# Altium footprint library NXP Semiconductors Sensors.PcbLib: 38 footprints (part 2 of 3)
Each footprint in its own frame and in the unit in brackets; x right, y up, seen from the top. Pads: shape width x height; smd on the part's side, far side on the other; paste and mask are expansions set on the pad; w line width, h text height; cw(c..) or ccw(c..) is an arc to the next point about the centre after c.
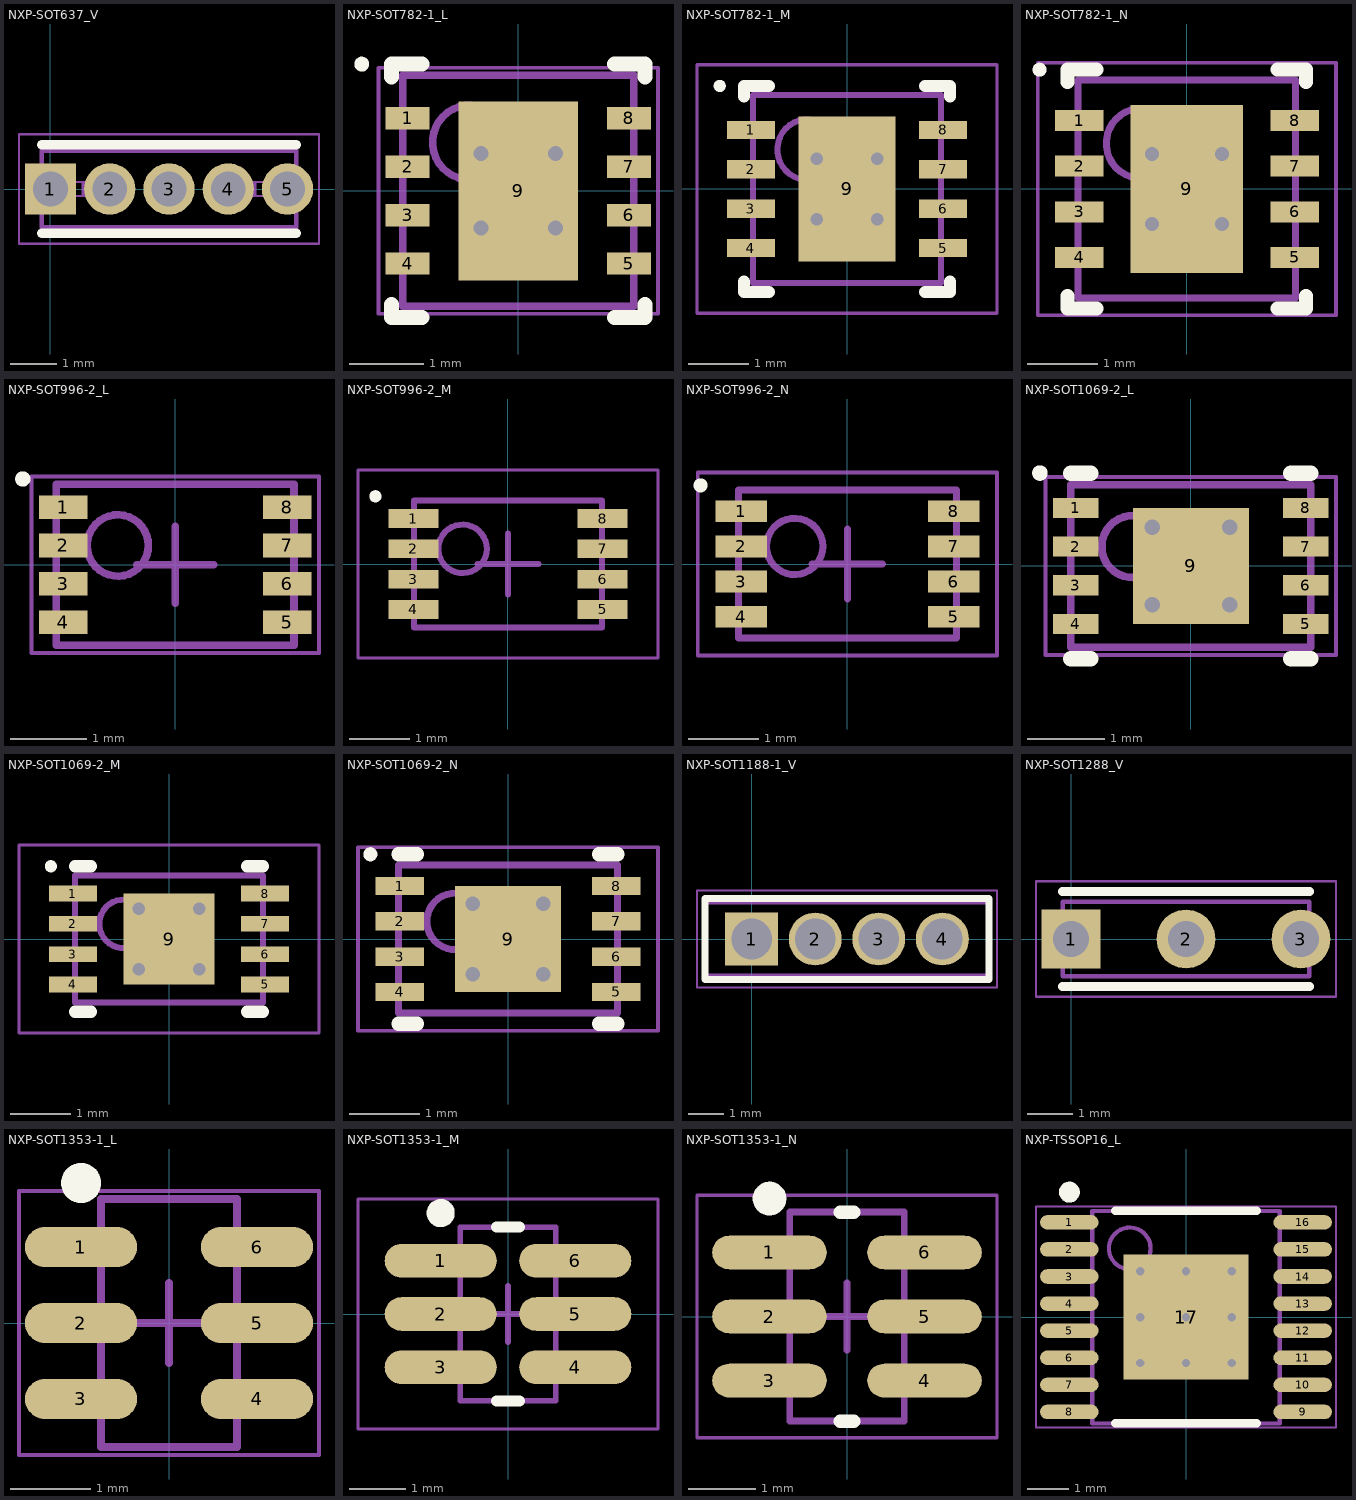
[diagram p1: the footprints below, top view; thin cyan lines are the x and y axes]

## NXP-SOT637_V [mm] "SOT, 5-Leads, Body 5.45x1.55mm, Pitch 1.27 mm"
height 16.65
pads (5):
  rect 1.1x1.1 hole 0.75: 1(0,0)
  round 1.1 hole 0.75: 2(1.27,0) 3(2.54,0) 4(3.81,0) 5(5.08,0)
Top Overlay:
  lines w0.2: -0.185,-0.95 5.265,-0.95 ; -0.185,0.95 5.265,0.95
Mechanical 13:
  lines w0.05: 0.34,-0.15 0.74,-0.15 0.74,0.15 0.34,0.15 0.34,-0.15 ; 0.39,-0.15 0.69,-0.15 0.69,0.15 0.39,0.15 0.39,-0.15 ; 1.34,-0.15 1.34,0.15 1.74,0.15 1.74,-0.15 1.34,-0.15 ; 1.39,-0.15 1.39,0.15 1.69,0.15 1.69,-0.15 1.39,-0.15 ; 2.34,-0.15 2.34,0.15 2.74,0.15 2.74,-0.15 2.34,-0.15 ; 2.39,-0.15 2.39,0.15 2.69,0.15 2.69,-0.15 2.39,-0.15 ; 3.34,-0.15 3.74,-0.15 3.74,0.15 3.34,0.15 3.34,-0.15 ; 3.39,-0.15 3.69,-0.15 3.69,0.15 3.39,0.15 3.39,-0.15 ; 4.34,-0.15 4.74,-0.15 4.74,0.15 4.34,0.15 4.34,-0.15 ; 4.39,-0.15 4.69,-0.15 4.69,0.15 4.39,0.15 4.39,-0.15
  lines w0.1: -0.185,-0.825 -0.185,0.825 5.265,0.825 5.265,-0.825 -0.185,-0.825
Mechanical 15:
  lines w0.05: -0.675,-1.175 5.755,-1.175 5.755,1.175 -0.675,1.175 -0.675,-1.175
3D body: height 0.98, standoff -4.78, extent 2.315,-0.15 3.165,0.15
3D body: height 9.05, standoff 0.95, extent -0.185,-0.825 5.265,0.825
3D body: height 16.65, standoff 12.05, extent -0.185,-0.825 5.265,0.825
3D body: height 12.05, standoff 9.05, extent 0.39,-0.15 0.69,0.15
3D body: height 11.85, standoff 9.25, extent 0.34,-0.15 0.74,0.15
3D body: height 11.85, standoff 9.25, extent 1.34,-0.15 1.74,0.15
3D body: height 12.05, standoff 9.05, extent 1.39,-0.15 1.69,0.15
3D body: height 11.85, standoff 9.25, extent 2.34,-0.15 2.74,0.15
3D body: height 12.05, standoff 9.05, extent 2.39,-0.15 2.69,0.15
3D body: height 12.05, standoff 9.05, extent 3.39,-0.15 3.69,0.15
3D body: height 11.85, standoff 9.25, extent 3.34,-0.15 3.74,0.15
3D body: height 12.05, standoff 9.05, extent 4.39,-0.15 4.69,0.15
3D body: height 11.85, standoff 9.25, extent 4.34,-0.15 4.74,0.15
3D body: height 0.95, standoff -4.75, extent -0.2,-0.15 0.95,0.15
3D body: height 0.95, standoff -4.75, extent 4.115,-0.15 5.265,0.15
3D body: height 0.98, standoff -4.78, extent 1.04,-0.15 1.69,0.15
3D body: height 0.98, standoff -4.78, extent 3.34,-0.15 3.99,0.15

## NXP-SOT782-1_L [mm] "PSON, 8-Leads, Body 3.1x3.1mm, Pitch 0.65mm, Thermal Pad 2.4x1.6mm, IPC High Density"
height 1
pads (9):
  rect 0.59x0.3 smd mask+0: 1(-1.485,0.975) 2(-1.485,0.325) 3(-1.485,-0.325) 4(-1.485,-0.975) 5(1.485,-0.975) 6(1.485,-0.325) 7(1.485,0.325) 8(1.485,0.975)
  rect 1.6x2.4 smd mask+0: 9(0,0)
via 0.5,-0.5 diameter 0.5 hole 0.2
via -0.5,-0.5 diameter 0.5 hole 0.2
via 0.5,0.5 diameter 0.5 hole 0.2
via -0.5,0.5 diameter 0.5 hole 0.2
Top Overlay:
  circle w0.1: c-2.1,1.7 r0.05
  lines w0.2: -1.7,-1.525 -1.7,-1.7 -1.29,-1.7 ; -1.7,1.525 -1.7,1.7 -1.29,1.7 ; 1.29,-1.7 1.7,-1.7 1.7,-1.525 ; 1.29,1.7 1.7,1.7 1.7,1.525
Mechanical 13:
  circle w0.1: c-0.65,0.65 r0.5
  lines w0.1: -1.55,-1.55 1.55,-1.55 1.55,1.55 -1.55,1.55 -1.55,-1.55
Mechanical 15:
  lines w0.05: -1.875,-1.65 1.875,-1.65 1.875,1.65 -1.875,1.65 -1.875,-1.65
  lines w0.1: -0.5,0 0.5,0 ; 0,-0.5 0,0.5
3D body: height 1, standoff 0, extent -1.55,-1.55 1.55,1.55

## NXP-SOT782-1_M [mm] "PSON, 8-Leads, Body 3.1x3.1mm, Pitch 0.65mm, Thermal Pad 2.4x1.6mm, IPC Low Density"
height 1
pads (9):
  rect 0.79x0.3 smd mask+0: 1(-1.585,0.975) 2(-1.585,0.325) 3(-1.585,-0.325) 4(-1.585,-0.975) 5(1.585,-0.975) 6(1.585,-0.325) 7(1.585,0.325) 8(1.585,0.975)
  rect 1.6x2.4 smd mask+0: 9(0,0)
via 0.5,-0.5 diameter 0.5 hole 0.2
via -0.5,-0.5 diameter 0.5 hole 0.2
via 0.5,0.5 diameter 0.5 hole 0.2
via -0.5,0.5 diameter 0.5 hole 0.2
Top Overlay:
  circle w0.1: c-2.1,1.7 r0.05
  lines w0.2: -1.7,-1.525 -1.7,-1.7 -1.29,-1.7 ; -1.7,1.525 -1.7,1.7 -1.29,1.7 ; 1.29,-1.7 1.7,-1.7 1.7,-1.525 ; 1.29,1.7 1.7,1.7 1.7,1.525
Mechanical 13:
  circle w0.1: c-0.65,0.65 r0.5
  lines w0.1: -1.55,-1.55 1.55,-1.55 1.55,1.55 -1.55,1.55 -1.55,-1.55
Mechanical 15:
  lines w0.05: -2.475,-2.05 2.475,-2.05 2.475,2.05 -2.475,2.05 -2.475,-2.05
  lines w0.1: -0.5,0 0.5,0 ; 0,-0.5 0,0.5
3D body: height 1, standoff 0, extent -1.55,-1.55 1.55,1.55

## NXP-SOT782-1_N [mm] "PSON, 8-Leads, Body 3.1x3.1mm, Pitch 0.65mm, Thermal Pad 2.4x1.6mm, IPC Medium Density"
height 1
pads (9):
  rect 0.69x0.3 smd mask+0: 1(-1.535,0.975) 2(-1.535,0.325) 3(-1.535,-0.325) 4(-1.535,-0.975) 5(1.535,-0.975) 6(1.535,-0.325) 7(1.535,0.325) 8(1.535,0.975)
  rect 1.6x2.4 smd mask+0: 9(0,0)
via 0.5,-0.5 diameter 0.5 hole 0.2
via -0.5,-0.5 diameter 0.5 hole 0.2
via 0.5,0.5 diameter 0.5 hole 0.2
via -0.5,0.5 diameter 0.5 hole 0.2
Top Overlay:
  circle w0.1: c-2.1,1.7 r0.05
  lines w0.2: -1.7,-1.525 -1.7,-1.7 -1.29,-1.7 ; -1.7,1.525 -1.7,1.7 -1.29,1.7 ; 1.29,-1.7 1.7,-1.7 1.7,-1.525 ; 1.29,1.7 1.7,1.7 1.7,1.525
Mechanical 13:
  circle w0.1: c-0.65,0.65 r0.5
  lines w0.1: -1.55,-1.55 1.55,-1.55 1.55,1.55 -1.55,1.55 -1.55,-1.55
Mechanical 15:
  lines w0.05: -2.125,-1.8 2.125,-1.8 2.125,1.8 -2.125,1.8 -2.125,-1.8
  lines w0.1: -0.5,0 0.5,0 ; 0,-0.5 0,0.5
3D body: height 1, standoff 0, extent -1.55,-1.55 1.55,1.55

## NXP-SOT996-2_L [mm] "PSON, 8-Leads, Body 2.1x3.1mm, Pitch 0.5mm, IPC High Density"
height 0.5
pads (8):
  rect 0.63x0.31 smd mask+0: 1(-1.46,0.75) 2(-1.46,0.25) 3(-1.46,-0.25) 4(-1.46,-0.75) 5(1.46,-0.75) 6(1.46,-0.25) 7(1.46,0.25) 8(1.46,0.75)
Top Overlay:
  circle w0.1: c-1.987,1.117 r0.05
Mechanical 13:
  circle w0.1: c-0.75,0.25 r0.4
  lines w0.1: -1.55,-1.05 1.55,-1.05 1.55,1.05 -1.55,1.05 -1.55,-1.05
Mechanical 15:
  lines w0.05: -1.875,-1.15 1.875,-1.15 1.875,1.15 -1.875,1.15 -1.875,-1.15
  lines w0.1: -0.5,0 0.5,0 ; 0,-0.5 0,0.5
3D body: height 0.5, standoff 0, extent -1.55,-1.05 1.55,1.05

## NXP-SOT996-2_M [mm] "PSON, 8-Leads, Body 2.1x3.1mm, Pitch 0.5mm, IPC Low Density"
height 0.5
pads (8):
  rect 0.83x0.31 smd mask+0: 1(-1.56,0.75) 2(-1.56,0.25) 3(-1.56,-0.25) 4(-1.56,-0.75) 5(1.56,-0.75) 6(1.56,-0.25) 7(1.56,0.25) 8(1.56,0.75)
Top Overlay:
  circle w0.1: c-2.187,1.117 r0.05
Mechanical 13:
  circle w0.1: c-0.75,0.25 r0.4
  lines w0.1: -1.55,-1.05 1.55,-1.05 1.55,1.05 -1.55,1.05 -1.55,-1.05
Mechanical 15:
  lines w0.05: -2.475,-1.55 2.475,-1.55 2.475,1.55 -2.475,1.55 -2.475,-1.55
  lines w0.1: -0.5,0 0.5,0 ; 0,-0.5 0,0.5
3D body: height 0.5, standoff 0, extent -1.55,-1.05 1.55,1.05

## NXP-SOT996-2_N [mm] "PSON, 8-Leads, Body 2.1x3.1mm, Pitch 0.5mm, IPC Medium Density"
height 0.5
pads (8):
  rect 0.73x0.31 smd mask+0: 1(-1.51,0.75) 2(-1.51,0.25) 3(-1.51,-0.25) 4(-1.51,-0.75) 5(1.51,-0.75) 6(1.51,-0.25) 7(1.51,0.25) 8(1.51,0.75)
Top Overlay:
  circle w0.1: c-2.087,1.117 r0.05
Mechanical 13:
  circle w0.1: c-0.75,0.25 r0.4
  lines w0.1: -1.55,-1.05 1.55,-1.05 1.55,1.05 -1.55,1.05 -1.55,-1.05
Mechanical 15:
  lines w0.05: -2.125,-1.3 2.125,-1.3 2.125,1.3 -2.125,1.3 -2.125,-1.3
  lines w0.1: -0.5,0 0.5,0 ; 0,-0.5 0,0.5
3D body: height 0.5, standoff 0, extent -1.55,-1.05 1.55,1.05

## NXP-SOT1069-2_L [mm] "PSON, 8-Leads, Body 2.1x3.1mm, Pitch 0.5mm, Thermal Pad 1.5x1.5mm, IPC High Density"
height 0.8
pads (9):
  rect 0.59x0.26 smd mask+0: 1(-1.485,0.75) 2(-1.485,0.25) 3(-1.485,-0.25) 4(-1.485,-0.75) 5(1.485,-0.75) 6(1.485,-0.25) 7(1.485,0.25) 8(1.485,0.75)
  rect 1.5x1.5 smd mask+0: 9(0,0)
via 0.5,-0.5 diameter 0.5 hole 0.2
via -0.5,-0.5 diameter 0.5 hole 0.2
via 0.5,0.5 diameter 0.5 hole 0.2
via -0.5,0.5 diameter 0.5 hole 0.2
Top Overlay:
  circle w0.1: c-1.95,1.2 r0.05
  lines w0.2: -1.55,-1.2 -1.29,-1.2 ; -1.55,1.2 -1.29,1.2 ; 1.29,-1.2 1.55,-1.2 ; 1.29,1.2 1.55,1.2
Mechanical 13:
  circle w0.1: c-0.75,0.25 r0.4
  lines w0.1: -1.55,-1.05 1.55,-1.05 1.55,1.05 -1.55,1.05 -1.55,-1.05
Mechanical 15:
  lines w0.05: -1.875,-1.15 1.875,-1.15 1.875,1.15 -1.875,1.15 -1.875,-1.15
  lines w0.1: -0.5,0 0.5,0 ; 0,-0.5 0,0.5
3D body: height 0.8, standoff 0, extent -1.55,-1.05 1.55,1.05

## NXP-SOT1069-2_M [mm] "PSON, 8-Leads, Body 2.1x3.1mm, Pitch 0.5mm, Thermal Pad 1.5x1.5mm, IPC Low Density"
height 0.8
pads (9):
  rect 0.79x0.26 smd mask+0: 1(-1.585,0.75) 2(-1.585,0.25) 3(-1.585,-0.25) 4(-1.585,-0.75) 5(1.585,-0.75) 6(1.585,-0.25) 7(1.585,0.25) 8(1.585,0.75)
  rect 1.5x1.5 smd mask+0: 9(0,0)
via 0.5,-0.5 diameter 0.5 hole 0.2
via -0.5,-0.5 diameter 0.5 hole 0.2
via 0.5,0.5 diameter 0.5 hole 0.2
via -0.5,0.5 diameter 0.5 hole 0.2
Top Overlay:
  circle w0.1: c-1.95,1.2 r0.05
  lines w0.2: -1.55,-1.2 -1.29,-1.2 ; -1.55,1.2 -1.29,1.2 ; 1.29,-1.2 1.55,-1.2 ; 1.29,1.2 1.55,1.2
Mechanical 13:
  circle w0.1: c-0.75,0.25 r0.4
  lines w0.1: -1.55,-1.05 1.55,-1.05 1.55,1.05 -1.55,1.05 -1.55,-1.05
Mechanical 15:
  lines w0.05: -2.475,-1.55 2.475,-1.55 2.475,1.55 -2.475,1.55 -2.475,-1.55
  lines w0.1: -0.5,0 0.5,0 ; 0,-0.5 0,0.5
3D body: height 0.8, standoff 0, extent -1.55,-1.05 1.55,1.05

## NXP-SOT1069-2_N [mm] "PSON, 8-Leads, Body 2.1x3.1mm, Pitch 0.5mm, Thermal Pad 1.5x1.5mm, IPC Medium Density"
height 0.8
pads (9):
  rect 0.69x0.26 smd mask+0: 1(-1.535,0.75) 2(-1.535,0.25) 3(-1.535,-0.25) 4(-1.535,-0.75) 5(1.535,-0.75) 6(1.535,-0.25) 7(1.535,0.25) 8(1.535,0.75)
  rect 1.5x1.5 smd mask+0: 9(0,0)
via 0.5,-0.5 diameter 0.5 hole 0.2
via -0.5,-0.5 diameter 0.5 hole 0.2
via 0.5,0.5 diameter 0.5 hole 0.2
via -0.5,0.5 diameter 0.5 hole 0.2
Top Overlay:
  circle w0.1: c-1.95,1.2 r0.05
  lines w0.2: -1.55,-1.2 -1.29,-1.2 ; -1.55,1.2 -1.29,1.2 ; 1.29,-1.2 1.55,-1.2 ; 1.29,1.2 1.55,1.2
Mechanical 13:
  circle w0.1: c-0.75,0.25 r0.4
  lines w0.1: -1.55,-1.05 1.55,-1.05 1.55,1.05 -1.55,1.05 -1.55,-1.05
Mechanical 15:
  lines w0.05: -2.125,-1.3 2.125,-1.3 2.125,1.3 -2.125,1.3 -2.125,-1.3
  lines w0.1: -0.5,0 0.5,0 ; 0,-0.5 0,0.5
3D body: height 0.8, standoff 0, extent -1.55,-1.05 1.55,1.05

## NXP-SOT1188-1_V [mm] "SOT, 4-Leads, Body 8.05x2.05mm, Pitch 1.8mm"
height 13.88
pads (4):
  rect 1.5x1.5 hole 1.15: 1(0,0)
  round 1.5 hole 1.15: 2(1.8,0) 3(3.6,0) 4(5.4,0)
Top Overlay:
  lines w0.2: -1.325,-1.15 -1.325,1.15 6.725,1.15 6.725,-1.15 -1.325,-1.15
Mechanical 13:
  lines w0.1: -1.325,-1.025 -1.325,1.025 6.725,1.025 6.725,-1.025 -1.325,-1.025
Mechanical 15:
  lines w0.05: -1.55,-1.375 -1.55,1.375 6.95,1.375 6.95,-1.375 -1.55,-1.375
3D body: height 13.88, standoff 0, extent -1.325,-1.025 6.725,1.025

## NXP-SOT1288_V [mm] "SOT, 3-Leads, Body 5.45x1.65mm, Pitch 2.54mm"
height 16.65
pads (3):
  rect 1.3x1.3 hole 0.8: 1(0,0)
  round 1.3 hole 0.8: 2(2.54,0) 3(5.08,0)
Top Overlay:
  lines w0.2: -0.185,-1.05 5.265,-1.05 ; -0.185,1.05 5.265,1.05
Mechanical 13:
  lines w0.1: -0.185,-0.825 -0.185,0.825 5.265,0.825 5.265,-0.825 -0.185,-0.825
Mechanical 15:
  lines w0.05: -0.775,-1.275 5.855,-1.275 5.855,1.275 -0.775,1.275 -0.775,-1.275
3D body: height 16.65, standoff 0, extent -0.185,-0.825 5.265,0.825

## NXP-SOT1353-1_L [mm] "SOP, 6-Leads, Body 3.1x1.7mm, Pitch 0.95mm, IPC High Density"
height 1.1
pads (6):
  oval 1.4x0.5 smd: 1(-1.1,0.95) 2(-1.1,0) 3(-1.1,-0.95) 4(1.1,-0.95) 5(1.1,0) 6(1.1,0.95)
Top Overlay:
  circle w0.25: c-1.1,1.75 r0.125
Mechanical 13:
  lines w0.1: -0.85,-1.55 0.85,-1.55 0.85,1.55 -0.85,1.55 -0.85,-1.55
Mechanical 15:
  lines w0.05: -1.875,-1.65 1.875,-1.65 1.875,1.65 -1.875,1.65 -1.875,-1.65
  lines w0.1: -0.5,0 0.5,0 ; 0,-0.5 0,0.5
3D body: height 1.1, standoff 0.01, extent -0.85,-1.55 0.85,1.55

## NXP-SOT1353-1_M [mm] "SOP, 6-Leads, Body 3.1x1.7mm, Pitch 0.95mm, IPC Low Density"
height 1.1
pads (6):
  oval 2x0.6 smd: 1(-1.2,0.95) 2(-1.2,0) 3(-1.2,-0.95) 4(1.2,-0.95) 5(1.2,0) 6(1.2,0.95)
Top Overlay:
  circle w0.25: c-1.2,1.8 r0.125
  lines w0.2: -0.2,-1.55 0.2,-1.55 ; -0.2,1.55 0.2,1.55
Mechanical 13:
  lines w0.1: -0.85,-1.55 -0.85,1.55 0.85,1.55 0.85,-1.55 -0.85,-1.55
Mechanical 15:
  lines w0.05: -2.675,-2.05 -2.675,2.05 2.675,2.05 2.675,-2.05 -2.675,-2.05
  lines w0.1: -0.5,0 0.5,0 ; 0,-0.5 0,0.5
3D body: height 1.1, standoff 0.01, extent -0.85,-1.55 0.85,1.55

## NXP-SOT1353-1_N [mm] "SOP, 6-Leads, Body 3.1x1.7mm, Pitch 0.95mm, IPC Medium Density"
height 1.1
pads (6):
  oval 1.7x0.5 smd: 1(-1.15,0.95) 2(-1.15,0) 3(-1.15,-0.95) 4(1.15,-0.95) 5(1.15,0) 6(1.15,0.95)
Top Overlay:
  circle w0.25: c-1.15,1.75 r0.125
  lines w0.2: -0.1,-1.55 0.1,-1.55 ; -0.1,1.55 0.1,1.55
Mechanical 13:
  lines w0.1: -0.85,-1.55 0.85,-1.55 0.85,1.55 -0.85,1.55 -0.85,-1.55
Mechanical 15:
  lines w0.05: -2.225,-1.8 2.225,-1.8 2.225,1.8 -2.225,1.8 -2.225,-1.8
  lines w0.1: -0.5,0 0.5,0 ; 0,-0.5 0,0.5
3D body: height 1.1, standoff 0.01, extent -0.85,-1.55 0.85,1.55

## NXP-TSSOP16_L [mm] "TSSOP, 16-Leads, Body 5.1x4.5mm, Pitch 0.65mm, Thermal Pad 2.997x2.997mm, IPC High Density"
height 1.2
pads (17):
  oval 1.4x0.35 smd: 1(-2.8,2.275) 2(-2.8,1.625) 3(-2.8,0.975) 4(-2.8,0.325) 5(-2.8,-0.325) 6(-2.8,-0.975) 7(-2.8,-1.625) 8(-2.8,-2.275) 9(2.8,-2.275) 10(2.8,-1.625) 11(2.8,-0.975) 12(2.8,-0.325) 13(2.8,0.325) 14(2.8,0.975) 15(2.8,1.625) 16(2.8,2.275)
  rect 3x3 smd: 17(0,0)
via -1.1,1.1 diameter 0.5 hole 0.2
via 0,1.1 diameter 0.5 hole 0.2
via 1.1,1.1 diameter 0.5 hole 0.2
via -1.1,0 diameter 0.5 hole 0.2
via 0,0 diameter 0.5 hole 0.2
via 1.1,0 diameter 0.5 hole 0.2
via -1.1,-1.1 diameter 0.5 hole 0.2
via 0,-1.1 diameter 0.5 hole 0.2
via 1.1,-1.1 diameter 0.5 hole 0.2
Top Overlay:
  circle w0.25: c-2.8,3 r0.125
  lines w0.2: -1.7,-2.55 1.7,-2.55 ; -1.7,2.55 1.7,2.55
Mechanical 13:
  circle w0.1: c-1.35,1.65 r0.5
  lines w0.1: -2.25,-2.55 -2.25,2.55 2.25,2.55 2.25,-2.55 -2.25,-2.55
Mechanical 15:
  lines w0.05: -3.6,-2.65 -3.6,2.65 3.6,2.65 3.6,-2.65 -3.6,-2.65
  lines w0.1: -0.5,0 0.5,0 ; 0,-0.5 0,0.5
3D body: height 1.2, standoff 0.03, extent -2.25,-2.55 2.25,2.55